# Altium integrated library ALTIUM-WE-PD-rev18b.IntLib: 278 symbols (part 4 of 4)
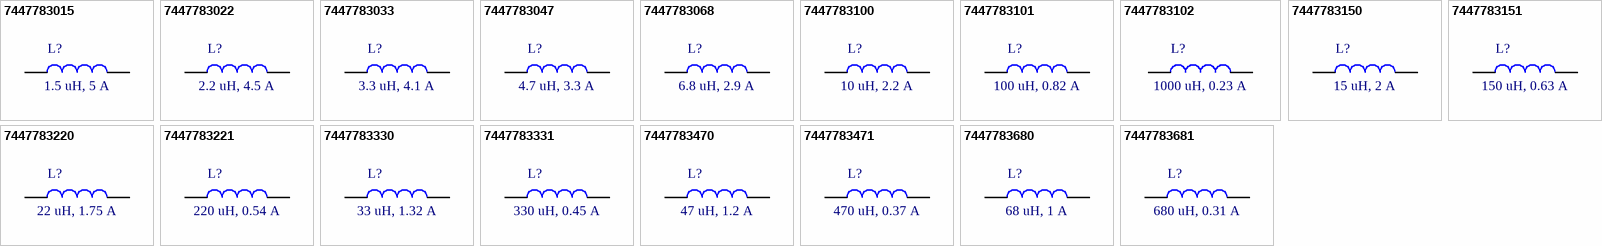
[diagram p16: symbols 7447783015 to 7447783681]

## 7447783681
designator L?, comment 680 uH, 0.31 A
WE-PD SMT Shielded Power Inductor, size 7332, 680 uH, 0.31 A; Part Number: 7447783681; Rated Current: 0.31 A; Inductance: 680 uH; DC Resistance max.: 2.9 Ohm; Self Resonant Frequency: 2.75 MHz; ComponentLink1Description: Manufacturer; ComponentLink1URL: http://www.we-online.de; ComponentLink2Description: Datasheet; ComponentLink2URL: https://katalog.we-online.de/pbs/datasheet/7447783681.pdf; Published Date: September 2018; Publisher: Wurth Elektronik; Size: 7332; Operating Temperature: -40 to 125 degC; Mounting Technology: SMT; Packaging: Tape and Reel
footprint WE-PD_7332_Clip
pins: 1, 2


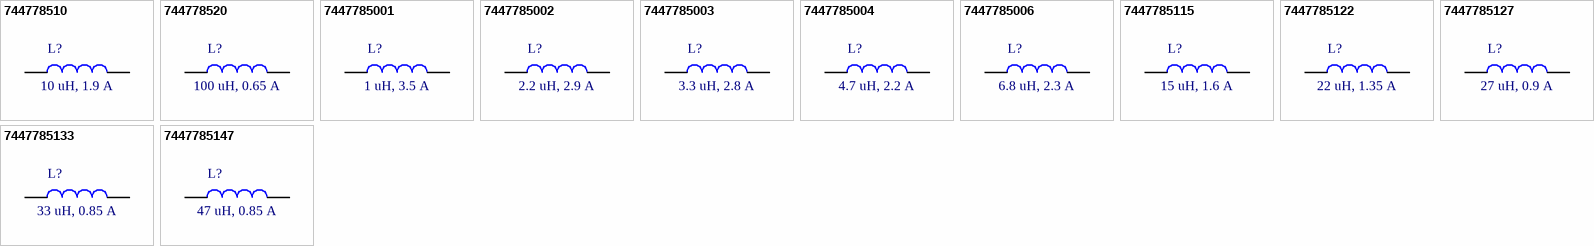
[diagram p11: symbols 744778510 to 7447785147]

## 744778510
designator L?, comment 10 uH, 1.9 A
WE-PD SMT Shielded Power Inductor, size 6033, 10 uH, 1.9 A; Part Number: 744778510; Rated Current: 1.9 A; Inductance: 10 uH; DC Resistance max.: 0.125 Ohm; Self Resonant Frequency: 37 MHz; ComponentLink1Description: Manufacturer; ComponentLink1URL: http://www.we-online.de; ComponentLink2Description: Datasheet; ComponentLink2URL: https://katalog.we-online.de/pbs/datasheet/744778510.pdf; Published Date: September 2018; Publisher: Wurth Elektronik; Size: 6033; Operating Temperature: -40 to 125 degC; Mounting Technology: SMT; Packaging: Tape and Reel
footprint WE-PD_6033_Plastic base
pins: 1, 2

## 744778520
designator L?, comment 100 uH, 0.65 A
WE-PD SMT Shielded Power Inductor, size 6033, 100 uH, 0.65 A; Part Number: 744778520; Rated Current: 0.65 A; Inductance: 100 uH; DC Resistance max.: 1.06 Ohm; Self Resonant Frequency: 11 MHz; ComponentLink1Description: Manufacturer; ComponentLink1URL: http://www.we-online.de; ComponentLink2Description: Datasheet; ComponentLink2URL: https://katalog.we-online.de/pbs/datasheet/744778520.pdf; Published Date: September 2018; Publisher: Wurth Elektronik; Size: 6033; Operating Temperature: -40 to 125 degC; Mounting Technology: SMT; Packaging: Tape and Reel
footprint WE-PD_6033_Plastic base
pins: 1, 2

## 7447785001
designator L?, comment 1 uH, 3.5 A
WE-PD SMT Shielded Power Inductor, size 6033, 1 uH, 3.5 A; Part Number: 7447785001; Rated Current: 3.5 A; Inductance: 1 uH; DC Resistance max.: 0.039 Ohm; Self Resonant Frequency: 192 MHz; ComponentLink1Description: Manufacturer; ComponentLink1URL: http://www.we-online.de; ComponentLink2Description: Datasheet; ComponentLink2URL: https://katalog.we-online.de/pbs/datasheet/7447785001.pdf; Published Date: September 2018; Publisher: Wurth Elektronik; Size: 6033; Operating Temperature: -40 to 125 degC; Mounting Technology: SMT; Packaging: Tape and Reel
footprint WE-PD_6033_Plastic base
pins: 1, 2

## 7447785002
designator L?, comment 2.2 uH, 2.9 A
WE-PD SMT Shielded Power Inductor, size 6033, 2.2 uH, 2.9 A; Part Number: 7447785002; Rated Current: 2.9 A; Inductance: 2.2 uH; DC Resistance max.: 0.054 Ohm; Self Resonant Frequency: 88 MHz; ComponentLink1Description: Manufacturer; ComponentLink1URL: http://www.we-online.de; ComponentLink2Description: Datasheet; ComponentLink2URL: https://katalog.we-online.de/pbs/datasheet/7447785002.pdf; Published Date: September 2018; Publisher: Wurth Elektronik; Size: 6033; Operating Temperature: -40 to 125 degC; Mounting Technology: SMT; Packaging: Tape and Reel
footprint WE-PD_6033_Plastic base
pins: 1, 2

## 7447785003
designator L?, comment 3.3 uH, 2.8 A
WE-PD SMT Shielded Power Inductor, size 6033, 3.3 uH, 2.8 A; Part Number: 7447785003; Rated Current: 2.8 A; Inductance: 3.3 uH; DC Resistance max.: 0.067 Ohm; Self Resonant Frequency: 60 MHz; ComponentLink1Description: Manufacturer; ComponentLink1URL: http://www.we-online.de; ComponentLink2Description: Datasheet; ComponentLink2URL: https://katalog.we-online.de/pbs/datasheet/7447785003.pdf; Published Date: September 2018; Publisher: Wurth Elektronik; Size: 6033; Operating Temperature: -40 to 125 degC; Mounting Technology: SMT; Packaging: Tape and Reel
footprint WE-PD_6033_Plastic base
pins: 1, 2

## 7447785004
designator L?, comment 4.7 uH, 2.2 A
WE-PD SMT Shielded Power Inductor, size 6033, 4.7 uH, 2.2 A; Part Number: 7447785004; Rated Current: 2.2 A; Inductance: 4.7 uH; DC Resistance max.: 0.078 Ohm; Self Resonant Frequency: 53 MHz; ComponentLink1Description: Manufacturer; ComponentLink1URL: http://www.we-online.de; ComponentLink2Description: Datasheet; ComponentLink2URL: https://katalog.we-online.de/pbs/datasheet/7447785004.pdf; Published Date: September 2018; Publisher: Wurth Elektronik; Size: 6033; Operating Temperature: -40 to 125 degC; Mounting Technology: SMT; Packaging: Tape and Reel
footprint WE-PD_6033_Plastic base
pins: 1, 2

## 7447785006
designator L?, comment 6.8 uH, 2.3 A
WE-PD SMT Shielded Power Inductor, size 6033, 6.8 uH, 2.3 A; Part Number: 7447785006; Rated Current: 2.3 A; Inductance: 6.8 uH; DC Resistance max.: 0.1 Ohm; Self Resonant Frequency: 45 MHz; ComponentLink1Description: Manufacturer; ComponentLink1URL: http://www.we-online.de; ComponentLink2Description: Datasheet; ComponentLink2URL: https://katalog.we-online.de/pbs/datasheet/7447785006.pdf; Published Date: September 2018; Publisher: Wurth Elektronik; Size: 6033; Operating Temperature: -40 to 125 degC; Mounting Technology: SMT; Packaging: Tape and Reel
footprint WE-PD_6033_Plastic base
pins: 1, 2

## 7447785115
designator L?, comment 15 uH, 1.6 A
WE-PD SMT Shielded Power Inductor, size 6033, 15 uH, 1.6 A; Part Number: 7447785115; Rated Current: 1.6 A; Inductance: 15 uH; DC Resistance max.: 0.2 Ohm; Self Resonant Frequency: 28 MHz; ComponentLink1Description: Manufacturer; ComponentLink1URL: http://www.we-online.de; ComponentLink2Description: Datasheet; ComponentLink2URL: https://katalog.we-online.de/pbs/datasheet/7447785115.pdf; Published Date: September 2018; Publisher: Wurth Elektronik; Size: 6033; Operating Temperature: -40 to 125 degC; Mounting Technology: SMT; Packaging: Tape and Reel
footprint WE-PD_6033_Plastic base
pins: 1, 2

## 7447785122
designator L?, comment 22 uH, 1.35 A
WE-PD SMT Shielded Power Inductor, size 6033, 22 uH, 1.35 A; Part Number: 7447785122; Rated Current: 1.35 A; Inductance: 22 uH; DC Resistance max.: 0.25 Ohm; Self Resonant Frequency: 23 MHz; ComponentLink1Description: Manufacturer; ComponentLink1URL: http://www.we-online.de; ComponentLink2Description: Datasheet; ComponentLink2URL: https://katalog.we-online.de/pbs/datasheet/7447785122.pdf; Published Date: September 2018; Publisher: Wurth Elektronik; Size: 6033; Operating Temperature: -40 to 125 degC; Mounting Technology: SMT; Packaging: Tape and Reel
footprint WE-PD_6033_Plastic base
pins: 1, 2

## 7447785127
designator L?, comment 27 uH, 0.9 A
WE-PD SMT Shielded Power Inductor, size 6033, 27 uH, 0.9 A; Part Number: 7447785127; Rated Current: 0.9 A; Inductance: 27 uH; DC Resistance max.: 0.36 Ohm; Self Resonant Frequency: 18 MHz; ComponentLink1Description: Manufacturer; ComponentLink1URL: http://www.we-online.de; ComponentLink2Description: Datasheet; ComponentLink2URL: https://katalog.we-online.de/pbs/datasheet/7447785127.pdf; Published Date: September 2018; Publisher: Wurth Elektronik; Size: 6033; Operating Temperature: -40 to 125 degC; Mounting Technology: SMT; Packaging: Tape and Reel
footprint WE-PD_6033_Plastic base
pins: 1, 2

## 7447785133
designator L?, comment 33 uH, 0.85 A
WE-PD SMT Shielded Power Inductor, size 6033, 33 uH, 0.85 A; Part Number: 7447785133; Rated Current: 0.85 A; Inductance: 33 uH; DC Resistance max.: 0.4 Ohm; Self Resonant Frequency: 17 MHz; ComponentLink1Description: Manufacturer; ComponentLink1URL: http://www.we-online.de; ComponentLink2Description: Datasheet; ComponentLink2URL: https://katalog.we-online.de/pbs/datasheet/7447785133.pdf; Published Date: September 2018; Publisher: Wurth Elektronik; Size: 6033; Operating Temperature: -40 to 125 degC; Mounting Technology: SMT; Packaging: Tape and Reel
footprint WE-PD_6033_Plastic base
pins: 1, 2

## 7447785147
designator L?, comment 47 uH, 0.85 A
WE-PD SMT Shielded Power Inductor, size 6033, 47 uH, 0.85 A; Part Number: 7447785147; Rated Current: 0.85 A; Inductance: 47 uH; DC Resistance max.: 0.6 Ohm; Self Resonant Frequency: 16.5 MHz; ComponentLink1Description: Manufacturer; ComponentLink1URL: http://www.we-online.de; ComponentLink2Description: Datasheet; ComponentLink2URL: https://katalog.we-online.de/pbs/datasheet/7447785147.pdf; Published Date: September 2018; Publisher: Wurth Elektronik; Size: 6033; Operating Temperature: -40 to 125 degC; Mounting Technology: SMT; Packaging: Tape and Reel
footprint WE-PD_6033_Plastic base
pins: 1, 2


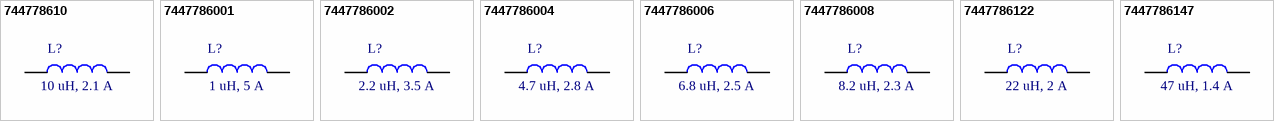
[diagram p12: symbols 744778610 to 7447786147]

## 744778610
designator L?, comment 10 uH, 2.1 A
WE-PD SMT Shielded Power Inductor, size 6050, 10 uH, 2.1 A; Part Number: 744778610; Rated Current: 2.1 A; Inductance: 10 uH; DC Resistance max.: 0.088 Ohm; Self Resonant Frequency: 35 MHz; ComponentLink1Description: Manufacturer; ComponentLink1URL: http://www.we-online.de; ComponentLink2Description: Datasheet; ComponentLink2URL: https://katalog.we-online.de/pbs/datasheet/744778610.pdf; Published Date: September 2018; Publisher: Wurth Elektronik; Size: 6050; Operating Temperature: -40 to 125 degC; Mounting Technology: SMT; Packaging: Tape and Reel
footprint WE-PD_6050_Plastic base
pins: 1, 2

## 7447786001
designator L?, comment 1 uH, 5 A
WE-PD SMT Shielded Power Inductor, size 6050, 1 uH, 5 A; Part Number: 7447786001; Rated Current: 5 A; Inductance: 1 uH; DC Resistance max.: 0.034 Ohm; Self Resonant Frequency: 180 MHz; ComponentLink1Description: Manufacturer; ComponentLink1URL: http://www.we-online.de; ComponentLink2Description: Datasheet; ComponentLink2URL: https://katalog.we-online.de/pbs/datasheet/7447786001.pdf; Published Date: September 2018; Publisher: Wurth Elektronik; Size: 6050; Operating Temperature: -40 to 125 degC; Mounting Technology: SMT; Packaging: Tape and Reel
footprint WE-PD_6050_Plastic base
pins: 1, 2

## 7447786002
designator L?, comment 2.2 uH, 3.5 A
WE-PD SMT Shielded Power Inductor, size 6050, 2.2 uH, 3.5 A; Part Number: 7447786002; Rated Current: 3.5 A; Inductance: 2.2 uH; DC Resistance max.: 0.049 Ohm; Self Resonant Frequency: 115 MHz; ComponentLink1Description: Manufacturer; ComponentLink1URL: http://www.we-online.de; ComponentLink2Description: Datasheet; ComponentLink2URL: https://katalog.we-online.de/pbs/datasheet/7447786002.pdf; Published Date: September 2018; Publisher: Wurth Elektronik; Size: 6050; Operating Temperature: -40 to 125 degC; Mounting Technology: SMT; Packaging: Tape and Reel
footprint WE-PD_6050_Plastic base
pins: 1, 2

## 7447786004
designator L?, comment 4.7 uH, 2.8 A
WE-PD SMT Shielded Power Inductor, size 6050, 4.7 uH, 2.8 A; Part Number: 7447786004; Rated Current: 2.8 A; Inductance: 4.7 uH; DC Resistance max.: 0.065 Ohm; Self Resonant Frequency: 60 MHz; ComponentLink1Description: Manufacturer; ComponentLink1URL: http://www.we-online.de; ComponentLink2Description: Datasheet; ComponentLink2URL: https://katalog.we-online.de/pbs/datasheet/7447786004.pdf; Published Date: September 2018; Publisher: Wurth Elektronik; Size: 6050; Operating Temperature: -40 to 125 degC; Mounting Technology: SMT; Packaging: Tape and Reel
footprint WE-PD_6050_Plastic base
pins: 1, 2

## 7447786006
designator L?, comment 6.8 uH, 2.5 A
WE-PD SMT Shielded Power Inductor, size 6050, 6.8 uH, 2.5 A; Part Number: 7447786006; Rated Current: 2.5 A; Inductance: 6.8 uH; DC Resistance max.: 0.075 Ohm; Self Resonant Frequency: 43 MHz; ComponentLink1Description: Manufacturer; ComponentLink1URL: http://www.we-online.de; ComponentLink2Description: Datasheet; ComponentLink2URL: https://katalog.we-online.de/pbs/datasheet/7447786006.pdf; Published Date: September 2018; Publisher: Wurth Elektronik; Size: 6050; Operating Temperature: -40 to 125 degC; Mounting Technology: SMT; Packaging: Tape and Reel
footprint WE-PD_6050_Plastic base
pins: 1, 2

## 7447786008
designator L?, comment 8.2 uH, 2.3 A
WE-PD SMT Shielded Power Inductor, size 6050, 8.2 uH, 2.3 A; Part Number: 7447786008; Rated Current: 2.3 A; Inductance: 8.2 uH; DC Resistance max.: 0.08 Ohm; Self Resonant Frequency: 40 MHz; ComponentLink1Description: Manufacturer; ComponentLink1URL: http://www.we-online.de; ComponentLink2Description: Datasheet; ComponentLink2URL: https://katalog.we-online.de/pbs/datasheet/7447786008.pdf; Published Date: September 2018; Publisher: Wurth Elektronik; Size: 6050; Operating Temperature: -40 to 125 degC; Mounting Technology: SMT; Packaging: Tape and Reel
footprint WE-PD_6050_Plastic base
pins: 1, 2

## 7447786122
designator L?, comment 22 uH, 2 A
WE-PD SMT Shielded Power Inductor, size 6050, 22 uH, 2 A; Part Number: 7447786122; Rated Current: 2 A; Inductance: 22 uH; DC Resistance max.: 0.115 Ohm; Self Resonant Frequency: 15 MHz; ComponentLink1Description: Manufacturer; ComponentLink1URL: http://www.we-online.de; ComponentLink2Description: Datasheet; ComponentLink2URL: https://katalog.we-online.de/pbs/datasheet/7447786122.pdf; Published Date: September 2018; Publisher: Wurth Elektronik; Size: 6050; Operating Temperature: -40 to 125 degC; Mounting Technology: SMT; Packaging: Tape and Reel
footprint WE-PD_6050_Plastic base
pins: 1, 2

## 7447786147
designator L?, comment 47 uH, 1.4 A
WE-PD SMT Shielded Power Inductor, size 6050, 47 uH, 1.4 A; Part Number: 7447786147; Rated Current: 1.4 A; Inductance: 47 uH; DC Resistance max.: 0.295 Ohm; Self Resonant Frequency: 10 MHz; ComponentLink1Description: Manufacturer; ComponentLink1URL: http://www.we-online.de; ComponentLink2Description: Datasheet; ComponentLink2URL: https://katalog.we-online.de/pbs/datasheet/7447786147.pdf; Published Date: September 2018; Publisher: Wurth Elektronik; Size: 6050; Operating Temperature: -40 to 125 degC; Mounting Technology: SMT; Packaging: Tape and Reel
footprint WE-PD_6050_Plastic base (SMT Shielded Power Inductor, 2-leads, body 6.2x6.5mm)
pins: 1, 2


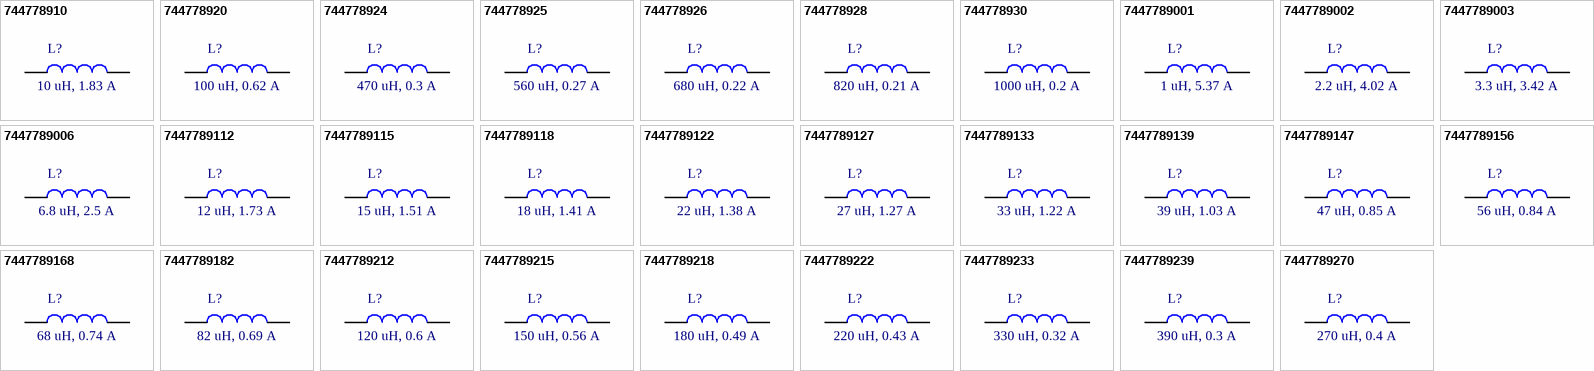
[diagram p13: symbols 744778910 to 7447789270]

## 744778910
designator L?, comment 10 uH, 1.83 A
WE-PD SMT Shielded Power Inductor, size 7332, 10 uH, 1.83 A; Part Number: 744778910; Rated Current: 1.83 A; Inductance: 10 uH; DC Resistance max.: 0.072 Ohm; Self Resonant Frequency: 32 MHz; ComponentLink1Description: Manufacturer; ComponentLink1URL: http://www.we-online.de; ComponentLink2Description: Datasheet; ComponentLink2URL: https://katalog.we-online.de/pbs/datasheet/744778910.pdf; Published Date: September 2018; Publisher: Wurth Elektronik; Size: 7332; Operating Temperature: -40 to 125 degC; Mounting Technology: SMT; Packaging: Tape and Reel
footprint WE-PD_7332_Plastic base
pins: 1, 2

## 744778920
designator L?, comment 100 uH, 0.62 A
WE-PD SMT Shielded Power Inductor, size 7332, 100 uH, 0.62 A; Part Number: 744778920; Rated Current: 0.62 A; Inductance: 100 uH; DC Resistance max.: 0.79 Ohm; Self Resonant Frequency: 9 MHz; ComponentLink1Description: Manufacturer; ComponentLink1URL: http://www.we-online.de; ComponentLink2Description: Datasheet; ComponentLink2URL: https://katalog.we-online.de/pbs/datasheet/744778920.pdf; Published Date: September 2018; Publisher: Wurth Elektronik; Size: 7332; Operating Temperature: -40 to 125 degC; Mounting Technology: SMT; Packaging: Tape and Reel
footprint WE-PD_7332_Plastic base
pins: 1, 2

## 744778924
designator L?, comment 470 uH, 0.3 A
WE-PD SMT Shielded Power Inductor, size 7332, 470 uH, 0.3 A; Part Number: 744778924; Rated Current: 0.3 A; Inductance: 470 uH; DC Resistance max.: 4.18 Ohm; Self Resonant Frequency: 4 MHz; ComponentLink1Description: Manufacturer; ComponentLink1URL: http://www.we-online.de; ComponentLink2Description: Datasheet; ComponentLink2URL: https://katalog.we-online.de/pbs/datasheet/744778924.pdf; Published Date: September 2018; Publisher: Wurth Elektronik; Size: 7332; Operating Temperature: -40 to 125 degC; Mounting Technology: SMT; Packaging: Tape and Reel
footprint WE-PD_7332_Plastic base
pins: 1, 2

## 744778925
designator L?, comment 560 uH, 0.27 A
WE-PD SMT Shielded Power Inductor, size 7332, 560 uH, 0.27 A; Part Number: 744778925; Rated Current: 0.27 A; Inductance: 560 uH; DC Resistance max.: 4.67 Ohm; Self Resonant Frequency: 3.7 MHz; ComponentLink1Description: Manufacturer; ComponentLink1URL: http://www.we-online.de; ComponentLink2Description: Datasheet; ComponentLink2URL: https://katalog.we-online.de/pbs/datasheet/744778925.pdf; Published Date: September 2018; Publisher: Wurth Elektronik; Size: 7332; Operating Temperature: -40 to 125 degC; Mounting Technology: SMT; Packaging: Tape and Reel
footprint WE-PD_7332_Plastic base
pins: 1, 2

## 744778926
designator L?, comment 680 uH, 0.22 A
WE-PD SMT Shielded Power Inductor, size 7332, 680 uH, 0.22 A; Part Number: 744778926; Rated Current: 0.22 A; Inductance: 680 uH; DC Resistance max.: 5.73 Ohm; Self Resonant Frequency: 3.4 MHz; ComponentLink1Description: Manufacturer; ComponentLink1URL: http://www.we-online.de; ComponentLink2Description: Datasheet; ComponentLink2URL: https://katalog.we-online.de/pbs/datasheet/744778926.pdf; Published Date: September 2018; Publisher: Wurth Elektronik; Size: 7332; Operating Temperature: -40 to 125 degC; Mounting Technology: SMT; Packaging: Tape and Reel
footprint WE-PD_7332_Plastic base
pins: 1, 2

## 744778928
designator L?, comment 820 uH, 0.21 A
WE-PD SMT Shielded Power Inductor, size 7332, 820 uH, 0.21 A; Part Number: 744778928; Rated Current: 0.21 A; Inductance: 820 uH; DC Resistance max.: 6.54 Ohm; Self Resonant Frequency: 2.8 MHz; ComponentLink1Description: Manufacturer; ComponentLink1URL: http://www.we-online.de; ComponentLink2Description: Datasheet; ComponentLink2URL: https://katalog.we-online.de/pbs/datasheet/744778928.pdf; Published Date: September 2018; Publisher: Wurth Elektronik; Size: 7332; Operating Temperature: -40 to 125 degC; Mounting Technology: SMT; Packaging: Tape and Reel
footprint WE-PD_7332_Plastic base
pins: 1, 2

## 744778930
designator L?, comment 1000 uH, 0.2 A
WE-PD SMT Shielded Power Inductor, size 7332, 1000 uH, 0.2 A; Part Number: 744778930; Rated Current: 0.2 A; Inductance: 1000 uH; DC Resistance max.: 9.44 Ohm; Self Resonant Frequency: 2.6 MHz; ComponentLink1Description: Manufacturer; ComponentLink1URL: http://www.we-online.de; ComponentLink2Description: Datasheet; ComponentLink2URL: https://katalog.we-online.de/pbs/datasheet/744778930.pdf; Published Date: September 2018; Publisher: Wurth Elektronik; Size: 7332; Operating Temperature: -40 to 125 degC; Mounting Technology: SMT; Packaging: Tape and Reel
footprint WE-PD_7332_Plastic base
pins: 1, 2

## 7447789001
designator L?, comment 1 uH, 5.37 A
WE-PD SMT Shielded Power Inductor, size 7332, 1 uH, 5.37 A; Part Number: 7447789001; Rated Current: 5.37 A; Inductance: 1 uH; DC Resistance max.: 0.012 Ohm; Self Resonant Frequency: 115 MHz; ComponentLink1Description: Manufacturer; ComponentLink1URL: http://www.we-online.de; ComponentLink2Description: Datasheet; ComponentLink2URL: https://katalog.we-online.de/pbs/datasheet/7447789001.pdf; Published Date: September 2018; Publisher: Wurth Elektronik; Size: 7332; Operating Temperature: -40 to 125 degC; Mounting Technology: SMT; Packaging: Tape and Reel
footprint WE-PD_7332_Plastic base
pins: 1, 2

## 7447789002
designator L?, comment 2.2 uH, 4.02 A
WE-PD SMT Shielded Power Inductor, size 7332, 2.2 uH, 4.02 A; Part Number: 7447789002; Rated Current: 4.02 A; Inductance: 2.2 uH; DC Resistance max.: 0.02 Ohm; Self Resonant Frequency: 67 MHz; ComponentLink1Description: Manufacturer; ComponentLink1URL: http://www.we-online.de; ComponentLink2Description: Datasheet; ComponentLink2URL: https://katalog.we-online.de/pbs/datasheet/7447789002.pdf; Published Date: September 2018; Publisher: Wurth Elektronik; Size: 7332; Operating Temperature: -40 to 125 degC; Mounting Technology: SMT; Packaging: Tape and Reel
footprint WE-PD_7332_Plastic base
pins: 1, 2

## 7447789003
designator L?, comment 3.3 uH, 3.42 A
WE-PD SMT Shielded Power Inductor, size 7332, 3.3 uH, 3.42 A; Part Number: 7447789003; Rated Current: 3.42 A; Inductance: 3.3 uH; DC Resistance max.: 0.03 Ohm; Self Resonant Frequency: 61 MHz; ComponentLink1Description: Manufacturer; ComponentLink1URL: http://www.we-online.de; ComponentLink2Description: Datasheet; ComponentLink2URL: https://katalog.we-online.de/pbs/datasheet/7447789003.pdf; Published Date: September 2018; Publisher: Wurth Elektronik; Size: 7332; Operating Temperature: -40 to 125 degC; Mounting Technology: SMT; Packaging: Tape and Reel
footprint WE-PD_7332_Plastic base
pins: 1, 2

## 7447789006
designator L?, comment 6.8 uH, 2.5 A
WE-PD SMT Shielded Power Inductor, size 7332, 6.8 uH, 2.5 A; Part Number: 7447789006; Rated Current: 2.5 A; Inductance: 6.8 uH; DC Resistance max.: 0.044 Ohm; Self Resonant Frequency: 38 MHz; ComponentLink1Description: Manufacturer; ComponentLink1URL: http://www.we-online.de; ComponentLink2Description: Datasheet; ComponentLink2URL: https://katalog.we-online.de/pbs/datasheet/7447789006.pdf; Published Date: September 2018; Publisher: Wurth Elektronik; Size: 7332; Operating Temperature: -40 to 125 degC; Mounting Technology: SMT; Packaging: Tape and Reel
footprint WE-PD_7332_Plastic base
pins: 1, 2

## 7447789112
designator L?, comment 12 uH, 1.73 A
WE-PD SMT Shielded Power Inductor, size 7332, 12 uH, 1.73 A; Part Number: 7447789112; Rated Current: 1.73 A; Inductance: 12 uH; DC Resistance max.: 0.098 Ohm; Self Resonant Frequency: 27 MHz; ComponentLink1Description: Manufacturer; ComponentLink1URL: http://www.we-online.de; ComponentLink2Description: Datasheet; ComponentLink2URL: https://katalog.we-online.de/pbs/datasheet/7447789112.pdf; Published Date: September 2018; Publisher: Wurth Elektronik; Size: 7332; Operating Temperature: -40 to 125 degC; Mounting Technology: SMT; Packaging: Tape and Reel
footprint WE-PD_7332_Plastic base
pins: 1, 2

## 7447789115
designator L?, comment 15 uH, 1.51 A
WE-PD SMT Shielded Power Inductor, size 7332, 15 uH, 1.51 A; Part Number: 7447789115; Rated Current: 1.51 A; Inductance: 15 uH; DC Resistance max.: 0.13 Ohm; Self Resonant Frequency: 26 MHz; ComponentLink1Description: Manufacturer; ComponentLink1URL: http://www.we-online.de; ComponentLink2Description: Datasheet; ComponentLink2URL: https://katalog.we-online.de/pbs/datasheet/7447789115.pdf; Published Date: September 2018; Publisher: Wurth Elektronik; Size: 7332; Operating Temperature: -40 to 125 degC; Mounting Technology: SMT; Packaging: Tape and Reel
footprint WE-PD_7332_Plastic base
pins: 1, 2

## 7447789118
designator L?, comment 18 uH, 1.41 A
WE-PD SMT Shielded Power Inductor, size 7332, 18 uH, 1.41 A; Part Number: 7447789118; Rated Current: 1.41 A; Inductance: 18 uH; DC Resistance max.: 0.14 Ohm; Self Resonant Frequency: 24 MHz; ComponentLink1Description: Manufacturer; ComponentLink1URL: http://www.we-online.de; ComponentLink2Description: Datasheet; ComponentLink2URL: https://katalog.we-online.de/pbs/datasheet/7447789118.pdf; Published Date: September 2018; Publisher: Wurth Elektronik; Size: 7332; Operating Temperature: -40 to 125 degC; Mounting Technology: SMT; Packaging: Tape and Reel
footprint WE-PD_7332_Plastic base
pins: 1, 2

## 7447789122
designator L?, comment 22 uH, 1.38 A
WE-PD SMT Shielded Power Inductor, size 7332, 22 uH, 1.38 A; Part Number: 7447789122; Rated Current: 1.38 A; Inductance: 22 uH; DC Resistance max.: 0.19 Ohm; Self Resonant Frequency: 20 MHz; ComponentLink1Description: Manufacturer; ComponentLink1URL: http://www.we-online.de; ComponentLink2Description: Datasheet; ComponentLink2URL: https://katalog.we-online.de/pbs/datasheet/7447789122.pdf; Published Date: September 2018; Publisher: Wurth Elektronik; Size: 7332; Operating Temperature: -40 to 125 degC; Mounting Technology: SMT; Packaging: Tape and Reel
footprint WE-PD_7332_Plastic base
pins: 1, 2

## 7447789127
designator L?, comment 27 uH, 1.27 A
WE-PD SMT Shielded Power Inductor, size 7332, 27 uH, 1.27 A; Part Number: 7447789127; Rated Current: 1.27 A; Inductance: 27 uH; DC Resistance max.: 0.21 Ohm; Self Resonant Frequency: 18 MHz; ComponentLink1Description: Manufacturer; ComponentLink1URL: http://www.we-online.de; ComponentLink2Description: Datasheet; ComponentLink2URL: https://katalog.we-online.de/pbs/datasheet/7447789127.pdf; Published Date: September 2018; Publisher: Wurth Elektronik; Size: 7332; Operating Temperature: -40 to 125 degC; Mounting Technology: SMT; Packaging: Tape and Reel
footprint WE-PD_7332_Plastic base
pins: 1, 2

## 7447789133
designator L?, comment 33 uH, 1.22 A
WE-PD SMT Shielded Power Inductor, size 7332, 33 uH, 1.22 A; Part Number: 7447789133; Rated Current: 1.22 A; Inductance: 33 uH; DC Resistance max.: 0.24 Ohm; Self Resonant Frequency: 16 MHz; ComponentLink1Description: Manufacturer; ComponentLink1URL: http://www.we-online.de; ComponentLink2Description: Datasheet; ComponentLink2URL: https://katalog.we-online.de/pbs/datasheet/7447789133.pdf; Published Date: September 2018; Publisher: Wurth Elektronik; Size: 7332; Operating Temperature: -40 to 125 degC; Mounting Technology: SMT; Packaging: Tape and Reel
footprint WE-PD_7332_Plastic base
pins: 1, 2

## 7447789139
designator L?, comment 39 uH, 1.03 A
WE-PD SMT Shielded Power Inductor, size 7332, 39 uH, 1.03 A; Part Number: 7447789139; Rated Current: 1.03 A; Inductance: 39 uH; DC Resistance max.: 0.32 Ohm; Self Resonant Frequency: 14 MHz; ComponentLink1Description: Manufacturer; ComponentLink1URL: http://www.we-online.de; ComponentLink2Description: Datasheet; ComponentLink2URL: https://katalog.we-online.de/pbs/datasheet/7447789139.pdf; Published Date: September 2018; Publisher: Wurth Elektronik; Size: 7332; Operating Temperature: -40 to 125 degC; Mounting Technology: SMT; Packaging: Tape and Reel
footprint WE-PD_7332_Plastic base
pins: 1, 2

## 7447789147
designator L?, comment 47 uH, 0.85 A
WE-PD SMT Shielded Power Inductor, size 7332, 47 uH, 0.85 A; Part Number: 7447789147; Rated Current: 0.85 A; Inductance: 47 uH; DC Resistance max.: 0.36 Ohm; Self Resonant Frequency: 13.5 MHz; ComponentLink1Description: Manufacturer; ComponentLink1URL: http://www.we-online.de; ComponentLink2Description: Datasheet; ComponentLink2URL: https://katalog.we-online.de/pbs/datasheet/7447789147.pdf; Published Date: September 2018; Publisher: Wurth Elektronik; Size: 7332; Operating Temperature: -40 to 125 degC; Mounting Technology: SMT; Packaging: Tape and Reel
footprint WE-PD_7332_Plastic base
pins: 1, 2

## 7447789156
designator L?, comment 56 uH, 0.84 A
WE-PD SMT Shielded Power Inductor, size 7332, 56 uH, 0.84 A; Part Number: 7447789156; Rated Current: 0.84 A; Inductance: 56 uH; DC Resistance max.: 0.47 Ohm; Self Resonant Frequency: 12.5 MHz; ComponentLink1Description: Manufacturer; ComponentLink1URL: http://www.we-online.de; ComponentLink2Description: Datasheet; ComponentLink2URL: https://katalog.we-online.de/pbs/datasheet/7447789156.pdf; Published Date: September 2018; Publisher: Wurth Elektronik; Size: 7332; Operating Temperature: -40 to 125 degC; Mounting Technology: SMT; Packaging: Tape and Reel
footprint WE-PD_7332_Plastic base
pins: 1, 2

## 7447789168
designator L?, comment 68 uH, 0.74 A
WE-PD SMT Shielded Power Inductor, size 7332, 68 uH, 0.74 A; Part Number: 7447789168; Rated Current: 0.74 A; Inductance: 68 uH; DC Resistance max.: 0.52 Ohm; Self Resonant Frequency: 11.5 MHz; ComponentLink1Description: Manufacturer; ComponentLink1URL: http://www.we-online.de; ComponentLink2Description: Datasheet; ComponentLink2URL: https://katalog.we-online.de/pbs/datasheet/7447789168.pdf; Published Date: September 2018; Publisher: Wurth Elektronik; Size: 7332; Operating Temperature: -40 to 125 degC; Mounting Technology: SMT; Packaging: Tape and Reel
footprint WE-PD_7332_Plastic base
pins: 1, 2

## 7447789182
designator L?, comment 82 uH, 0.69 A
WE-PD SMT Shielded Power Inductor, size 7332, 82 uH, 0.69 A; Part Number: 7447789182; Rated Current: 0.69 A; Inductance: 82 uH; DC Resistance max.: 0.69 Ohm; Self Resonant Frequency: 9.8 MHz; ComponentLink1Description: Manufacturer; ComponentLink1URL: http://www.we-online.de; ComponentLink2Description: Datasheet; ComponentLink2URL: https://katalog.we-online.de/pbs/datasheet/7447789182.pdf; Published Date: September 2018; Publisher: Wurth Elektronik; Size: 7332; Operating Temperature: -40 to 125 degC; Mounting Technology: SMT; Packaging: Tape and Reel
footprint WE-PD_7332_Plastic base
pins: 1, 2

## 7447789212
designator L?, comment 120 uH, 0.6 A
WE-PD SMT Shielded Power Inductor, size 7332, 120 uH, 0.6 A; Part Number: 7447789212; Rated Current: 0.6 A; Inductance: 120 uH; DC Resistance max.: 0.89 Ohm; Self Resonant Frequency: 8.5 MHz; ComponentLink1Description: Manufacturer; ComponentLink1URL: http://www.we-online.de; ComponentLink2Description: Datasheet; ComponentLink2URL: https://katalog.we-online.de/pbs/datasheet/7447789212.pdf; Published Date: September 2018; Publisher: Wurth Elektronik; Size: 7332; Operating Temperature: -40 to 125 degC; Mounting Technology: SMT; Packaging: Tape and Reel
footprint WE-PD_7332_Plastic base
pins: 1, 2

## 7447789215
designator L?, comment 150 uH, 0.56 A
WE-PD SMT Shielded Power Inductor, size 7332, 150 uH, 0.56 A; Part Number: 7447789215; Rated Current: 0.56 A; Inductance: 150 uH; DC Resistance max.: 1.27 Ohm; Self Resonant Frequency: 7.2 MHz; ComponentLink1Description: Manufacturer; ComponentLink1URL: http://www.we-online.de; ComponentLink2Description: Datasheet; ComponentLink2URL: https://katalog.we-online.de/pbs/datasheet/7447789215.pdf; Published Date: September 2018; Publisher: Wurth Elektronik; Size: 7332; Operating Temperature: -40 to 125 degC; Mounting Technology: SMT; Packaging: Tape and Reel
footprint WE-PD_7332_Plastic base
pins: 1, 2

## 7447789218
designator L?, comment 180 uH, 0.49 A
WE-PD SMT Shielded Power Inductor, size 7332, 180 uH, 0.49 A; Part Number: 7447789218; Rated Current: 0.49 A; Inductance: 180 uH; DC Resistance max.: 1.45 Ohm; Self Resonant Frequency: 7 MHz; ComponentLink1Description: Manufacturer; ComponentLink1URL: http://www.we-online.de; ComponentLink2Description: Datasheet; ComponentLink2URL: https://katalog.we-online.de/pbs/datasheet/7447789218.pdf; Published Date: September 2018; Publisher: Wurth Elektronik; Size: 7332; Operating Temperature: -40 to 125 degC; Mounting Technology: SMT; Packaging: Tape and Reel
footprint WE-PD_7332_Plastic base
pins: 1, 2

## 7447789222
designator L?, comment 220 uH, 0.43 A
WE-PD SMT Shielded Power Inductor, size 7332, 220 uH, 0.43 A; Part Number: 7447789222; Rated Current: 0.43 A; Inductance: 220 uH; DC Resistance max.: 1.65 Ohm; Self Resonant Frequency: 6 MHz; ComponentLink1Description: Manufacturer; ComponentLink1URL: http://www.we-online.de; ComponentLink2Description: Datasheet; ComponentLink2URL: https://katalog.we-online.de/pbs/datasheet/7447789222.pdf; Published Date: September 2018; Publisher: Wurth Elektronik; Size: 7332; Operating Temperature: -40 to 125 degC; Mounting Technology: SMT; Packaging: Tape and Reel
footprint WE-PD_7332_Plastic base
pins: 1, 2

## 7447789233
designator L?, comment 330 uH, 0.32 A
WE-PD SMT Shielded Power Inductor, size 7332, 330 uH, 0.32 A; Part Number: 7447789233; Rated Current: 0.32 A; Inductance: 330 uH; DC Resistance max.: 2.62 Ohm; Self Resonant Frequency: 4.8 MHz; ComponentLink1Description: Manufacturer; ComponentLink1URL: http://www.we-online.de; ComponentLink2Description: Datasheet; ComponentLink2URL: https://katalog.we-online.de/pbs/datasheet/7447789233.pdf; Published Date: September 2018; Publisher: Wurth Elektronik; Size: 7332; Operating Temperature: -40 to 125 degC; Mounting Technology: SMT; Packaging: Tape and Reel
footprint WE-PD_7332_Plastic base
pins: 1, 2

## 7447789239
designator L?, comment 390 uH, 0.3 A
WE-PD SMT Shielded Power Inductor, size 7332, 390 uH, 0.3 A; Part Number: 7447789239; Rated Current: 0.3 A; Inductance: 390 uH; DC Resistance max.: 2.94 Ohm; Self Resonant Frequency: 4.4 MHz; ComponentLink1Description: Manufacturer; ComponentLink1URL: http://www.we-online.de; ComponentLink2Description: Datasheet; ComponentLink2URL: https://katalog.we-online.de/pbs/datasheet/7447789239.pdf; Published Date: September 2018; Publisher: Wurth Elektronik; Size: 7332; Operating Temperature: -40 to 125 degC; Mounting Technology: SMT; Packaging: Tape and Reel
footprint WE-PD_7332_Plastic base
pins: 1, 2

## 7447789270
designator L?, comment 270 uH, 0.4 A
WE-PD SMT Shielded Power Inductor, size 7332, 270 uH, 0.4 A; Part Number: 7447789270; Rated Current: 0.4 A; Inductance: 270 uH; DC Resistance max.: 2.31 Ohm; Self Resonant Frequency: 5.2 MHz; ComponentLink1Description: Manufacturer; ComponentLink1URL: http://www.we-online.de; ComponentLink2Description: Datasheet; ComponentLink2URL: https://katalog.we-online.de/pbs/datasheet/7447789270.pdf; Published Date: September 2018; Publisher: Wurth Elektronik; Size: 7332; Operating Temperature: -40 to 125 degC; Mounting Technology: SMT; Packaging: Tape and Reel
footprint WE-PD_7332_Plastic base
pins: 1, 2